# Altium footprint library 5019400407.PcbLib: 1 footprints
Each footprint in its own frame and in the unit in brackets; x right, y up, seen from the top. Pads: shape width x height; smd on the part's side, far side on the other; paste and mask are expansions set on the pad; w line width, h text height; cw(c..) or ccw(c..) is an arc to the next point about the centre after c.
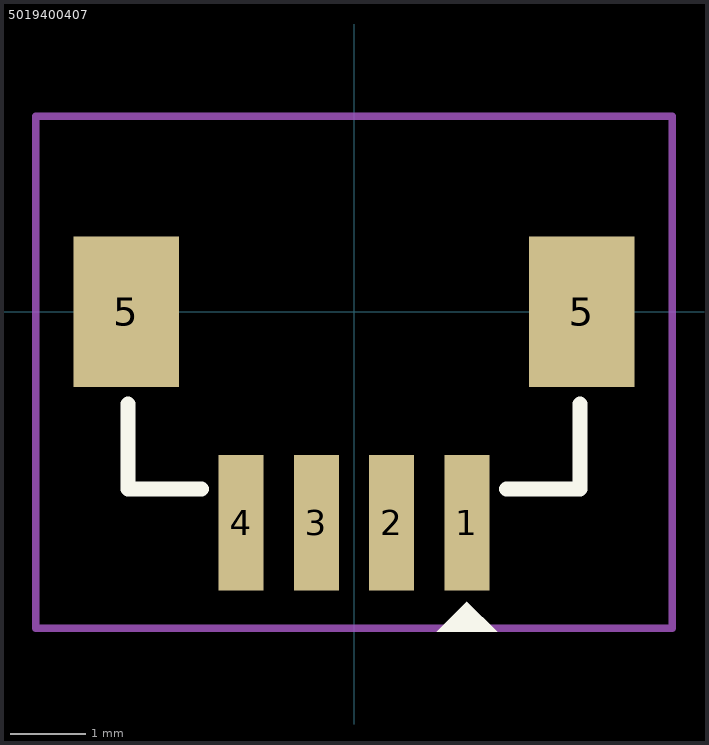
[diagram p0: the footprint, top view; thin cyan lines are the x and y axes]

## 5019400407 [mm]
pads (6):
  rect 0.6x1.8 smd: 1(1.5,-2.8) 2(0.5,-2.8) 3(-0.5,-2.8) 4(-1.5,-2.8)
  rect 1.4x2 smd: 5(-3.025,0) 5(3.025,0)
Top Overlay:
  region: 1.9,-4.25 1.1,-4.25 1.5,-3.85
  lines w0.2: -3,-1.225 -3,-2.35 -2.025,-2.35 ; 2.025,-2.35 3,-2.35 3,-1.225
Top Courtyard:
  lines w0.1: -4.225,0.95 -4.225,2.6 ; -3.1,2.6 -4.225,2.6 ; -1.5,-4.2 -4.225,-4.2 ; 3.125,2.6 4.225,2.6 ; 4.225,0.975 4.225,2.6 ; -4.225,-4.2 4.225,-4.2 4.225,2.6 ; -4.225,-4.2 -4.225,2.6 ; -4.225,2.6 4.225,2.6
3D body "5019400407.stp": height 5.45, standoff -0.05, extent -3.115,-2.95 3.125,2.1